# EAGLE library part MCP3008_ADC (library ModernDevice#1)
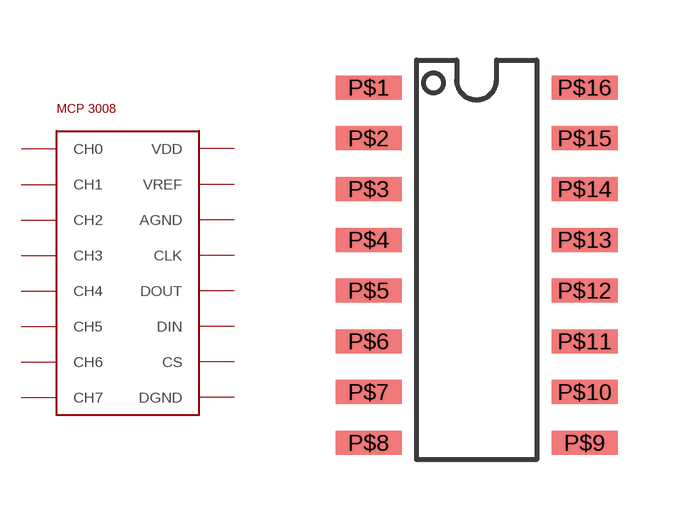
[diagram p75: symbol with the pads of SOIC16; footprint SOIC16]

Designator prefix -

## MCP3008_ADC  [SOIC16]
P$1  CH0
P$2  CH1
P$3  CH2
P$4  CH3
P$5  CH4
P$6  CH5
P$7  CH6
P$8  CH7
P$9  DGND
P$10  CS
P$11  DIN
P$12  DOUT
P$13  CLK
P$14  AGND
P$15  VREF
P$16  VDD

## Footprint SOIC16 (pad centres in mm)
smd 1.65 x 0.6: P$1 -2.7,3.81; P$2 -2.7,2.54; P$3 -2.7,1.27; P$4 -2.7,0; P$5 -2.7,-1.27; P$6 -2.7,-2.54; P$7 -2.7,-3.81; P$8 -2.7,-5.08; P$9 2.7,-5.08; P$10 2.7,-3.81; P$11 2.7,-2.54; P$12 2.7,-1.27; P$13 2.7,0; P$14 2.7,1.27; P$15 2.7,2.54; P$16 2.7,3.81